# EAGLE library part NANO (library dirtcheaprx_nano)
Arduino Nano
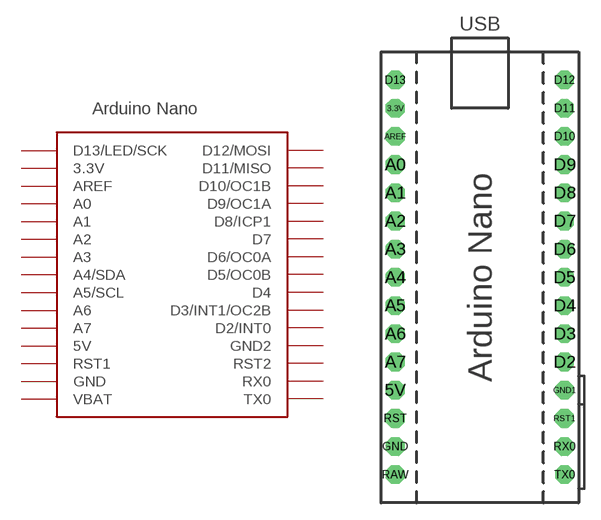
[diagram p0: symbol with the pads of NANO; footprint NANO]

Designator prefix U

## NANO  [NANO]
3.3V  3.3V
5V  5V
A0  A0
A1  A1
A2  A2
A3  A3
A4  A4/SDA
A5  A5/SCL
A6  A6
A7  A7
AREF  AREF
D2  D2/INT0
D3  D3/INT1/OC2B
D4  D4
D5  D5/OC0B
D6  D6/OC0A
D7  D7
D8  D8/ICP1
D9  D9/OC1A
D10  D10/OC1B
D11  D11/MISO
D12  D12/MOSI
D13  D13/LED/SCK
GND  GND
GND1  GND2
RAW  VBAT
RST  RST1
RST1  RST2
RX0  RX0
TX0  TX0

## Footprint NANO (pad centres in mm)
drill 0.9 pad 1.676 octagon: 3.3V -7.62,15.24; 5V -7.62,-10.16; A0 -7.62,10.16; A1 -7.62,7.62; A2 -7.62,5.08; A3 -7.62,2.54; A4 -7.62,0; A5 -7.62,-2.54; A6 -7.62,-5.08; A7 -7.62,-7.62; AREF -7.62,12.7; D2 7.62,-7.62; D3 7.62,-5.08; D4 7.62,-2.54; D5 7.62,0; D6 7.62,2.54; D7 7.62,5.08; D8 7.62,7.62; D9 7.62,10.16; D10 7.62,12.7; D11 7.62,15.24; D12 7.62,17.78; D13 -7.62,17.78; GND -7.62,-15.24; GND1 7.62,-10.16; RAW -7.62,-17.78; RST -7.62,-12.7; RST1 7.62,-12.7; RX0 7.62,-15.24; TX0 7.62,-17.78